# Altium schematic symbol library Thermistor_NTC.SchLib: 1 symbol
Pins are listed as number, name and electrical type; pins without a type are passive.

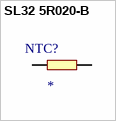
[diagram p0: symbol SL32 5R020-B]

## SL32 5R020-B
designator NTC?
Inrush Current Limiter 5 Ohms ±20% 20 A 1.220" (31.00mm); Package: *; Manufacturer 1: *; Manufacturer Part Number 1: *; Value: *
footprint SL32 5R020-B (Chip Resistor, 2-Leads, Body 3.15x4.60mm, IPC High Density)
pins: 1, 2